# Altium footprint library to.PcbLib: 51 footprints (part 1 of 4)
Each footprint in its own frame and in the unit in brackets; x right, y up, seen from the top. Pads: shape width x height; smd on the part's side, far side on the other; paste and mask are expansions set on the pad; w line width, h text height; cw(c..) or ccw(c..) is an arc to the next point about the centre after c.
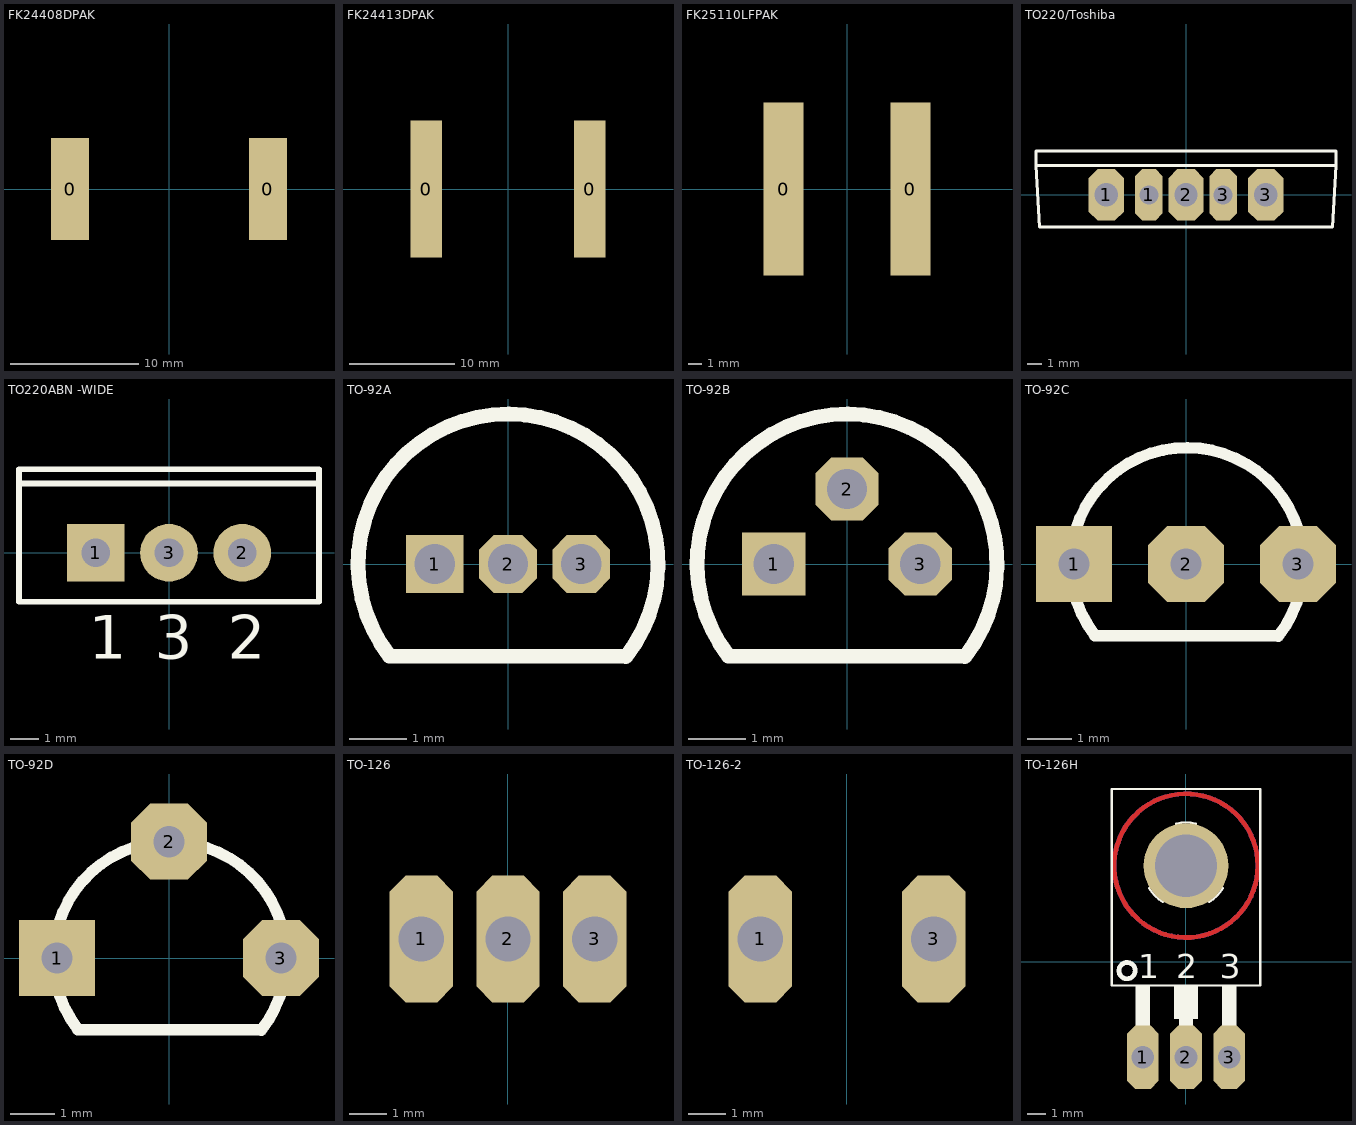
[diagram p0: the footprints below, top view; thin cyan lines are the x and y axes]

## FK24408DPAK [mm] "Fisher Elektronik FK 244 08 D PAK Heat Sink"
pads (2):
  rect 3x8 smd: 0(-7.75,0) 0(7.75,0)
3D body "FK 244 08 D PAK.STEP": height 10, standoff 0, extent -13,-4 13,4

## FK24413DPAK [mm] "Fisher Elektronik FK 244 13 D PAK Heat Sink"
pads (2):
  rect 3x13 smd: 0(-7.75,0) 0(7.75,0)
3D body "User Library-Heat sink FK 244-13-D2 PAK.step": height 10, standoff 0, extent -13,-6.5 13,6.5

## FK25110LFPAK [mm]
pads (2):
  rect 3x13 smd: 0(-4.75,0) 0(4.75,0)
3D body "fk_251_10_lf_pak.stp": height 10, standoff 0, extent -7.5,-6.5 7.5,6.5

## TO18 [mm]
3D body "User Library-TO-18-2.STEP": height 7.41, standoff -2.5, extent -4.987,-6.288 0.707,-0.653

## TO220/Toshiba [mm]
pads (5):
  oct 2.4x3.5 hole 1.6: 1(-5.45,0) 2(0,0) 3(5.45,0)
  oct 1.9x3.5 hole 1.3: 1(-2.54,0) 3(2.54,0)
Top Overlay:
  lines w0.2: -10.25,2 -10.25,3 10.25,3 10.25,2 ; -10.25,2 10.25,2 ; -10.25,2 -10,-2.2 10,-2.2 10.25,2

## TO220ABN -WIDE [mm]
pads (3):
  rect 2x2 hole 1: 1(-2.54,0)
  round 2 hole 1: 2(2.54,0) 3(0,0)
Top Overlay:
  lines w0.2: -5.2,2.4 5.2,2.4 ; -5.2,-1.7 5.2,-1.7 5.2,2.9 -5.2,2.9 -5.2,-1.7
  text "3" at -0.5,-3.675 h1.5
  text "2" at 2.04,-3.675 h1.5
  text "1" at -2.79,-3.675 h1.5

## TO-92A [mm]
height 19.7
pads (3):
  rect 1x1 hole 0.7: 1(-1.27,0)
  oct 1x1 hole 0.7: 2(0,0) 3(1.27,0)
Top Overlay:
  lines w0.254: -2.057,-1.6 2.03,-1.6 ; -2.057,-1.59 cw(c0,0) 2.042,-1.609
3D body "User Library-TO-92A.step": height 8, standoff -3, extent -2.4,-1.53 2.4,2.4

## TO-92B [mm]
height 19.7
pads (3):
  rect 1.1x1.1 hole 0.7: 1(-1.27,0)
  oct 1.1x1.1 hole 0.7: 2(0,1.3) 3(1.27,0)
Top Overlay:
  lines w0.254: -2.057,-1.6 2.03,-1.6 ; -2.057,-1.59 cw(c0,0) 2.042,-1.609
3D body "User Library-TO-92B.step": height 8, standoff -3.02, extent -2.4,-1.53 2.4,2.4

## TO-92C [mm]
height 19.7
pads (3):
  rect 1.7x1.7 hole 0.7: 1(-2.5,0)
  oct 1.7x1.7 hole 0.7: 2(0,0) 3(2.5,0)
Top Overlay:
  lines w0.254: -2.037,-1.6 2.05,-1.6 ; -2.037,-1.59 cw(c0.02,0) 2.062,-1.609
3D body "User Library-TO92.step": height 7.7, standoff -3.6, extent -2.745,-1.55 2.785,2.528

## TO-92D [mm]
height 19.7
pads (3):
  rect 1.7x1.7 hole 0.7: 1(-2.5,0)
  oct 1.7x1.7 hole 0.7: 2(0,2.6) 3(2.5,0)
Top Overlay:
  lines w0.254: -2.037,-1.6 2.05,-1.6 ; -2.037,-1.59 cw(c0.02,0) 2.062,-1.609
3D body "User Library-TO-92D.step": height 8, standoff -3.02, extent -2.767,-1.53 2.808,2.81

## TO-126 [mil]
pads (3):
  oct 66x132 hole 47.24: 1(-89.8,-199.85) 2(0.2,-199.85) 3(90.2,-199.85)
3D body "User Library-2SB649A (TO-126 MOD) v3.step": height 551.18, standoff -118.11, extent -157.48,-244.09 157.48,-137.8

## TO-126-2 [mil]
pads (2):
  oct 66x132 hole 47.24: 1(-89.8,-199.85) 3(90.2,-199.85)
3D body "User Library-TO-126-2.step": height 445.75, standoff -465, extent -228.65,-121.81 102.67,-11.81

## TO-126H [mm]
pads (4):
  oct 1.676x3.353 hole 1.2: 1(-2.281,-5.076) 2(0.005,-5.076) 3(2.291,-5.076)
  round 4.5 hole 3.3 unplated: ""(0.005,5.084)
Top Layer:
  circle w0.254: c0.005,5.084 r3.81
Bottom Layer:
  circle w0.254: c0.005,5.084 r3.81
Top Overlay:
  circle w0.127: c0.005,5.084 r1.651
  circle w0.254: c-3.119,-0.479 r0.432
  rectangle: 1.91,-3.425 2.672,-1.266
  rectangle: -0.376,-3.425 0.386,-1.266
  rectangle: -2.662,-3.425 -1.9,-1.266
  rectangle: -0.63,-3.044 0.64,-1.266
  lines w0.127: -1.474,4.349 -1.944,3.89 ccw(c0.005,5.084) -1.234,3.163 -0.764,3.623 ; -0.503,6.655 -0.503,7.313 cw(c0.005,5.084) 0.513,7.313 0.513,6.655 ; 0.774,3.623 1.244,3.163 ccw(c0.005,5.084) 1.954,3.889 1.484,4.349 ; -3.932,-1.266 3.942,-1.266 3.942,9.148 -3.932,9.148 -3.932,-1.266
  text "3" at 1.783,-0.885 h1.27
  text "2" at -0.503,-0.885 h1.27
  text "1" at -2.535,-0.885 h1.27

## TO-218 [mm]
3D body "User Library-TO218.STEP": height 22.23, standoff -3, extent -4.174,-2.381 10.826,2.419

## TO-218-5 [mm]
3D body "User Library-TO218-5.STEP": height 4.9, standoff 0, extent -18.329,-22.664 -3.329,11.636

## TO-218H [mm]
3D body "User Library-TO218-O.STEP": height 4.82, standoff -3, extent -5.399,-7.319 9.601,17.91